# EAGLE library part KENT_LCD_CONN (library SparkFun-20100301)
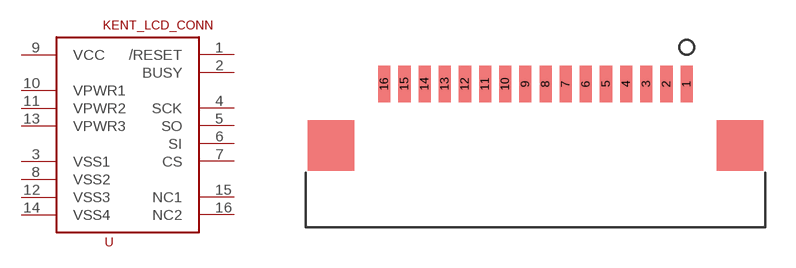
[diagram p271: symbol with the pads of FFC_16; footprint FFC_16]

Designator prefix -

## KENT_LCD_CONN  [FFC_16]
1  /RESET
2  BUSY
3  VSS1
4  SCK
5  SO
6  SI
7  CS
8  VSS2
9  VCC
10  VPWR1
11  VPWR2
12  VSS3
13  VPWR3
14  VSS4
15  NC1
16  NC2

## Footprint FFC_16 (pad centres in mm)
smd 0.6 x 1.8: 1 7.5,3.9; 2 6.5,3.9; 3 5.5,3.9; 4 4.5,3.9; 5 3.5,3.9; 6 2.5,3.9; 7 1.5,3.9; 8 0.5,3.9; 9 -0.5,3.9; 10 -1.5,3.9; 11 -2.5,3.9; 12 -3.5,3.9; 13 -4.5,3.9; 14 -5.5,3.9; 15 -6.5,3.9; 16 -7.5,3.9